# Altium integrated library MAX13487EESAT.IntLib: 1 symbol
Pins are listed as number, name and electrical type; pins without a type are passive.

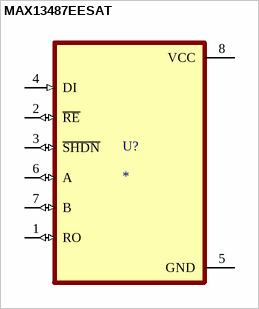
[diagram p0: symbol MAX13487EESAT]

## MAX13487EESAT
designator U?
Half-Duplex RS-485/RS-422-Compatible Transceiver with AutoDirection Control; MF: Analog Devices; MP: MAX13487EESA+; SnapEDA_Link: https://www.snapeda.com/parts/MAX13487EESA+/Analog+Devices/view-part/?ref=snap; Package: SOIC-8 Maxim; Value: *; Check_prices: https://www.snapeda.com/parts/MAX13487EESA+/Analog+Devices/view-part/?ref=eda
footprint SOIC127P600X175-8N
pins: 1 RO (io), 2 ~{RE} (io), 3 ~{SHDN} (io), 4 DI (in), 5 GND (power), 6 A (io), 7 B (io), 8 VCC (power)